# Altium footprint library BME680.PcbLib: 1 footprints
Each footprint in its own frame and in the unit in brackets; x right, y up, seen from the top. Pads: shape width x height; smd on the part's side, far side on the other; paste and mask are expansions set on the pad; w line width, h text height; cw(c..) or ccw(c..) is an arc to the next point about the centre after c.
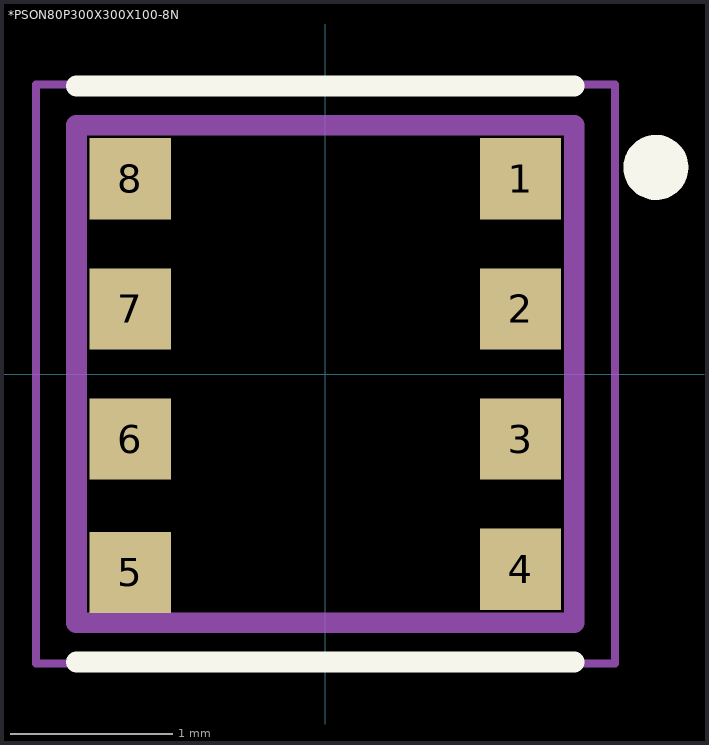
[diagram p0: the footprint, top view; thin cyan lines are the x and y axes]

## *PSON80P300X300X100-8N [mm]
pads (8):
  rect 0.5x0.5 smd: 1(1.2,1.2) 2(1.2,0.4) 3(1.2,-0.4) 4(1.2,-1.2) 5(-1.2,-1.22) 6(-1.2,-0.4) 7(-1.2,0.4) 8(-1.2,1.2)
Top Overlay:
  circle w0.2: c2.032,1.27 r0.1
  lines w0.127: -1.53,-1.77 1.53,-1.77 ; -1.53,1.77 1.53,1.77
Mechanical 4:
  lines w0.127: -1.53,-1.53 -1.53,1.53 ; -1.53,-1.53 1.53,-1.53 ; -1.53,-1.53 -1.53,1.53 ; -1.53,-1.53 1.53,-1.53 ; -1.53,1.53 1.53,1.53 ; -1.53,1.53 1.53,1.53 ; 1.53,-1.53 1.53,1.53 ; 1.53,-1.53 1.53,1.53
Mechanical 16:
  lines w0.05: -1.78,-1.78 1.78,-1.78 1.78,1.78 -1.78,1.78 -1.78,-1.78